# EAGLE library part RELAY_EC2 (library Victor)
Kemet EC2 style relay DPDT through-hole PCB mount Datasheet <http://www.kemet.com/Lists/ProductCatalog/Attachments/527/KEM_R7002_EC2_EE2.pdf>
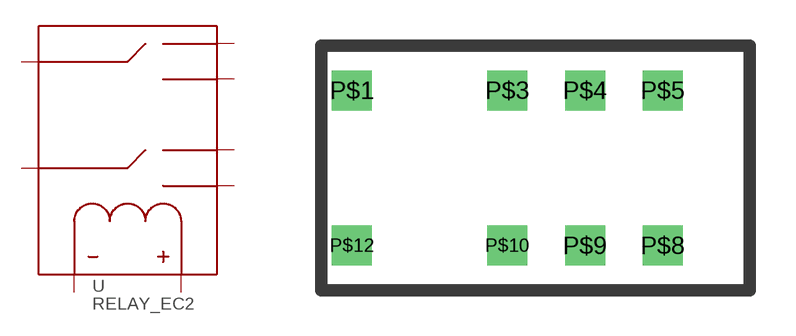
[diagram p9: symbol with the pads of RELAY_EC2; footprint RELAY_EC2]

Designator prefix -

## RELAY_EC2  [RELAY_EC2]
P$1  COIL(-)
P$3  NC1
P$4  L1
P$5  NO1
P$8  NO2
P$9  L2
P$10  NC2
P$12  COIL(+)

## Footprint RELAY_EC2 (pad centres in mm)
Kemet EC2 style relay
drill 0.8 square: P$1 0,2.54; P$3 5.08,2.54; P$4 7.62,2.54; P$5 10.16,2.54; P$8 10.16,-2.54; P$9 7.62,-2.54; P$10 5.08,-2.54; P$12 0,-2.54